# Altium footprint library SC_PDIP8.PcbLib: 1 footprints
Each footprint in its own frame and in the unit in brackets; x right, y up, seen from the top. Pads: shape width x height; smd on the part's side, far side on the other; paste and mask are expansions set on the pad; w line width, h text height; cw(c..) or ccw(c..) is an arc to the next point about the centre after c.
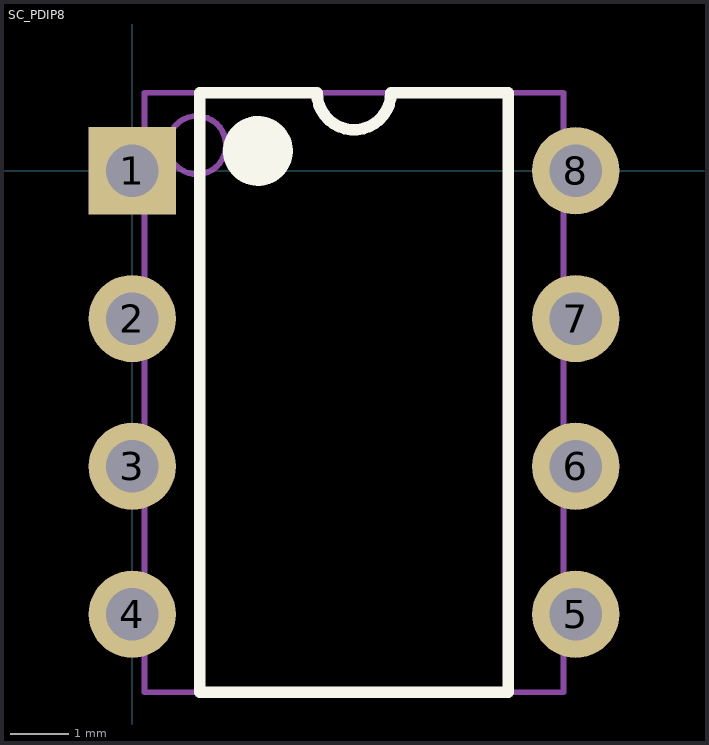
[diagram p0: the footprint, top view; thin cyan lines are the x and y axes]

## SC_PDIP8 [mm] "DIP, 8-Leads, Row Spacing 7.62mm, Pitch 2.54mm, Body 9.91x6.35mm"
height 5.34
pads (8):
  rect 1.5x1.5 hole 0.9: 1(0,0)
  round 1.5 hole 0.9: 2(0,-2.54) 3(0,-5.08) 4(0,-7.62) 5(7.62,-7.62) 6(7.62,-5.08) 7(7.62,-2.54) 8(7.62,0)
Top Overlay:
  circle w0.6: c2.16,0.34 r0.3
  lines w0.2: 1.16,-8.96 6.46,-8.96 6.46,1.34 4.445,1.34 cw(c3.81,1.34) 3.175,1.34 1.16,1.34 1.16,-8.96
Mechanical 1:
  circle w0.1: c1.11,0.44 r0.5
  lines w0.1: 0.21,-8.96 7.41,-8.96 7.41,1.34 0.21,1.34 0.21,-8.96
3D body: height 8.57, standoff 0.19, extent -0.1,-8.64 7.72,1.27